# EAGLE library part WIZNET_W5500 (library SteveMarple)
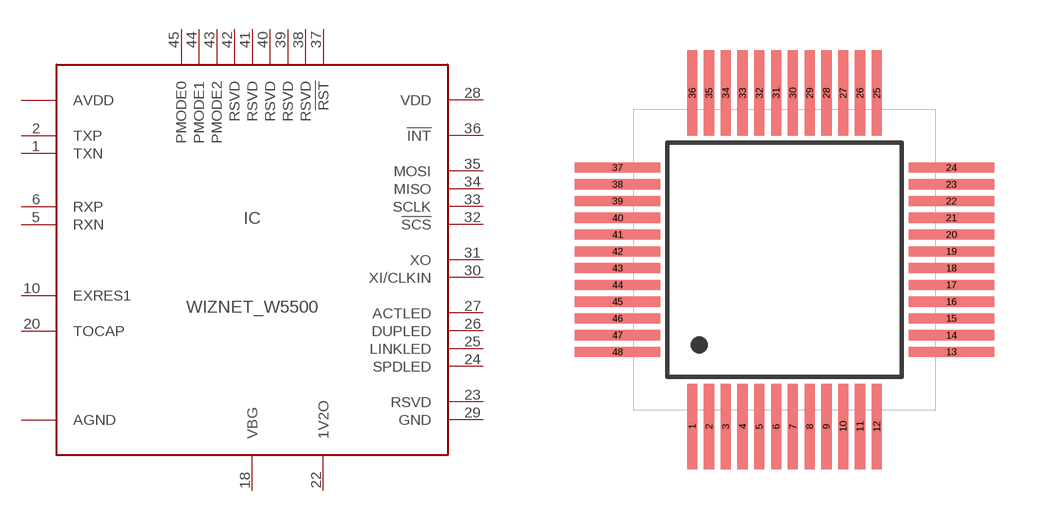
[diagram p36: symbol with the pads of LQFP48-HAND; footprint LQFP48-HAND]

Designator prefix IC

## WIZNET_W5500  [LQFP48-HAND]
1  TXN  out
2  TXP  out
3  AGND  pwr
4  AVDD  pwr
5  RXN  in
6  RXP  in
8  AVDD  pwr
9  AGND  pwr
10  EXRES1  pas
11  AVDD  pwr
14  AGND  pwr
15  AVDD  pwr
16  AGND  pwr
17  AVDD  pwr
18  VBG  nc
19  AGND  pwr
20  TOCAP  pas
21  AVDD  pwr
22  1V2O  out
23  RSVD  in
24  SPDLED  out
25  LINKLED  out
26  DUPLED  out
27  ACTLED  out
28  VDD  pwr
29  GND  pwr
30  XI/CLKIN  out
31  XO  out
32  !SCS  out
33  SCLK  in
34  MISO  out
35  MOSI  in
36  !INT  out
37  !RST  in
38  RSVD  in
39  RSVD  in
40  RSVD  in
41  RSVD  in
42  RSVD  in
43  PMODE2  in
44  PMODE1  in
45  PMODE0  in
48  AGND  pwr

## Footprint LQFP48-HAND (pad centres in mm)
smd 0.305 x 2.55: 1 -2.75,-4.975; 2 -2.25,-4.975; 3 -1.75,-4.975; 4 -1.25,-4.975; 5 -0.75,-4.975; 6 -0.25,-4.975; 7 0.25,-4.975; 8 0.75,-4.975; 9 1.25,-4.975; 10 1.75,-4.975; 11 2.25,-4.975; 12 2.75,-4.975; 25 2.75,4.975; 26 2.25,4.975; 27 1.75,4.975; 28 1.25,4.975; 29 0.75,4.975; 30 0.25,4.975; 31 -0.25,4.975; 32 -0.75,4.975; 33 -1.25,4.975; 34 -1.75,4.975; 35 -2.25,4.975; 36 -2.75,4.975
smd 2.55 x 0.305: 13 4.975,-2.75; 14 4.975,-2.25; 15 4.975,-1.75; 16 4.975,-1.25; 17 4.975,-0.75; 18 4.975,-0.25; 19 4.975,0.25; 20 4.975,0.75; 21 4.975,1.25; 22 4.975,1.75; 23 4.975,2.25; 24 4.975,2.75; 37 -4.975,2.75; 38 -4.975,2.25; 39 -4.975,1.75; 40 -4.975,1.25; 41 -4.975,0.75; 42 -4.975,0.25; 43 -4.975,-0.25; 44 -4.975,-0.75; 45 -4.975,-1.25; 46 -4.975,-1.75; 47 -4.975,-2.25; 48 -4.975,-2.75